# Altium schematic symbol library Diode_Laser.SchLib: 5 symbols
Pins are listed as number, name and electrical type; pins without a type are passive.

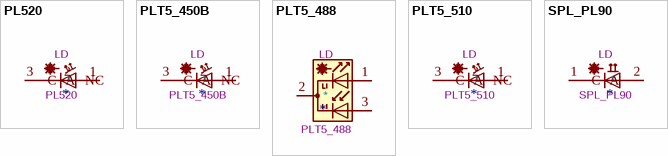
[diagram p0: symbols PL520 to SPL_PL90]

## PL520
designator *  value PL520  Reference: LD
Green Laser Diode (520nm), TO-38; ki_keywords: opto laserdiode; ki_fp_filters: LaserDiode*TO38ICut*; Footprint: OptoDevice:LaserDiode_TO38ICut-3; Datasheet: http://www.osram-os.com/Graphics/XPic7/00234693_0.pdf/PL%20520.pdf; Description_: Green Laser Diode (520nm), TO-38
pins: 1 A, 2 NC, 3 C

## PLT5_450B
designator *  value PLT5_450B  Reference: LD
100mW, Blue Laser Diode (450nm), TO-56; ki_keywords: opto laserdiode; ki_fp_filters: LaserDiode*TO56*; Footprint: OptoDevice:LaserDiode_TO56-3; Datasheet: https://look.ams-osram.com/m/711b74151583f43/original/PLT5-450B.pdf; Description_: 100mW, Blue Laser Diode (450nm), TO-56
pins: 1 A, 2 NC, 3 C

## PLT5_488
designator *  value PLT5_488  Reference: LD
60mW, Cyan Laser Diode (488nm), TO-56; ki_keywords: opto laserdiode; ki_fp_filters: LaserDiode*TO56*; Footprint: OptoDevice:LaserDiode_TO56-3; Datasheet: https://look.ams-osram.com/m/451ee5087173918f/original/PLT5-488.pdf; Description_: 60mW, Cyan Laser Diode (488nm), TO-56
pins: 1, 2, 3

## PLT5_510
designator *  value PLT5_510  Reference: LD
10mW, Green Laser Diode (515nm), TO-56; ki_keywords: opto laserdiode; ki_fp_filters: LaserDiode*TO56*; Footprint: OptoDevice:LaserDiode_TO56-3; Datasheet: https://look.ams-osram.com/m/2562f8ca3a03a793/original/PLT5-510.pdf; Description_: 10mW, Green Laser Diode (515nm), TO-56
pins: 1 A, 2 NC, 3 C

## SPL_PL90
designator *  value SPL_PL90  Reference: LD
Pulsed Laser Diode in Plastic Package 25W Peak Power; ki_keywords: opto laserdiode; ki_fp_filters: LED*5.0mm*; Footprint: LED_THT:LED_D5.0mm; Datasheet: https://look.ams-osram.com/m/2e6f6e5edf55ddfe/original/SPL-PL90.pdf; Description_: Pulsed Laser Diode in Plastic Package 25W Peak Power
pins: 1 C, 2 A